# Altium footprint library ATLAS_XP2V5_sredjen_bom.PcbLib: 50 footprints (part 2 of 4)
Each footprint in its own frame and in the unit in brackets; x right, y up, seen from the top. Pads: shape width x height; smd on the part's side, far side on the other; paste and mask are expansions set on the pad; w line width, h text height; cw(c..) or ccw(c..) is an arc to the next point about the centre after c.
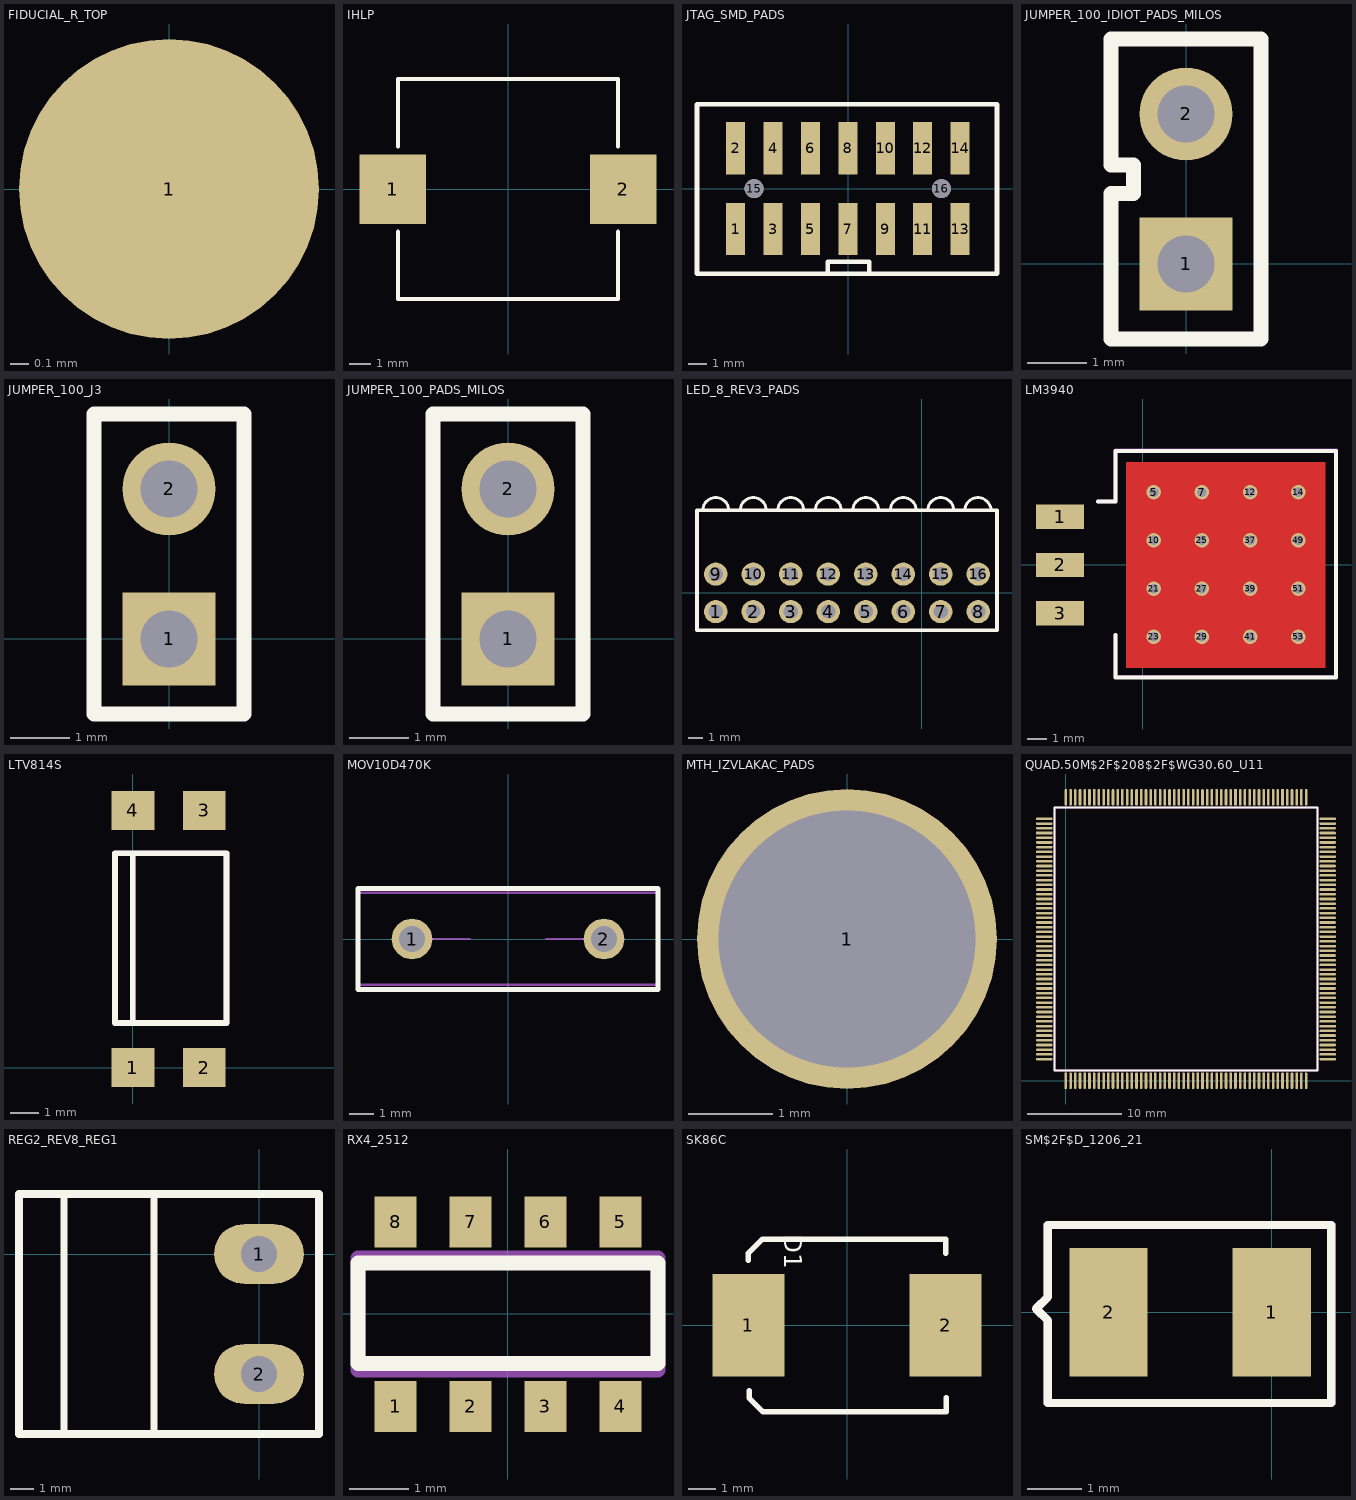
[diagram p1: the footprints below, top view; thin cyan lines are the x and y axes]

## FIDUCIAL_R_TOP [mil]
height 10
pads (1):
  round 63 smd paste-31.5 mask+31.5: 1(0,0)
Mechanical 1:
  text "UR9" at 0,356.09 h42.5

## IHLP [mil]
pads (2):
  rect 122.99x127.99 smd: 1(-212.5,0) 2(212.5,0)
Top Overlay:
  lines w7.87: -202.76,-78.74 -202.76,-202.76 202.76,-202.76 202.76,-78.74 ; -202.76,78.74 -202.76,203.15 202.76,203.15 202.76,78.74

## JTAG_SMD_PADS [mil]
pads (16):
  rect 40x110 smd: 1(-236.61,-85.04) 2(-236.61,84.96) 3(-157.91,-85.04) 4(-157.91,84.96) 5(-79.11,-85.04) 6(-79.11,84.96) 7(-0.4,-85.04) 8(-0.4,84.96) 9(78.39,-85.04) 10(78.39,84.96) 11(157.09,-85.04) 12(157.09,84.96) 13(235.82,-85.04) 14(235.82,84.96)
  round 40 hole 40 mask-20: 15(-197.61,-0.04) 16(196.39,-0.04)
Top Layer:
  text "J14" at 269,-253 h25.5
Top Overlay:
  lines w10: -317.86,-178.79 -317.86,177.46 313.39,177.46 313.39,-178.79 -317.86,-178.79 ; -42.86,-178.79 44.64,-178.79 44.64,-153.79 -42.86,-153.79 -42.86,-178.79
Mechanical 1:
  text "J14" at 263.84,-206.25 h25.5

## JUMPER_100_IDIOT_PADS_MILOS [mil]
pads (2):
  rect 62x62 / inner round 62 / far side rect 62x62 hole 38 mask+2.5: 1(0,0)
  round 62 / inner round 58 / far side round 62 hole 38 mask+2.5: 2(0,100)
Top Overlay:
  lines w10: -50,-50 -50,47 -35,47 -35,66 -50,66 -50,150 50,150 50,-50 -50,-50
Mechanical 1:
  text "JP5" at 42.53,-74.89 h25.5

## JUMPER_100_J3 [mil]
pads (2):
  rect 62x62 / inner rect 58x58 / far side rect 62x62 hole 38 mask+2.5: 1(0,0)
  round 62 / inner round 58 / far side round 62 hole 38 mask+2.5: 2(0,100)
Top Overlay:
  lines w10: -50,-50 -50,150 50,150 50,-50 -50,-50

## JUMPER_100_PADS_MILOS [mil]
pads (2):
  rect 62x62 / inner round 62 / far side rect 62x62 hole 38 mask+2.5: 1(0,0)
  round 62 / inner round 58 / far side round 62 hole 38 mask+2.5: 2(0,100)
Top Overlay:
  lines w10: -50,-50 -50,150 50,150 50,-50 -50,-50
Mechanical 1:
  text "JP4" at -62.5,107.25 h50

## LED_8_REV3_PADS [mil]
height 200
pads (16):
  round 62 hole 38: 1(-550,-50) 2(-450,-50) 3(-350,-50) 4(-250,-50) 5(-150,-50) 6(-50,-50) 7(50,-50) 8(150,-50) 9(-550,50) 10(-450,50) 11(-350,50) 12(-250,50) 13(-150,50) 14(-50,50) 15(50,50) 16(150,50)
Top Overlay:
  lines w8: -585,219 cw(c-550,219) -515,219 ; -485,219 cw(c-450,219) -415,219 ; -385,219 cw(c-350,219) -315,219 ; -285,219 cw(c-250,219) -215,219 ; -185,219 cw(c-150,219) -115,219 ; -85,219 cw(c-50,219) -15,219 ; 15,219 cw(c50,219) 85,219 ; 114,219 cw(c149,219) 184,219
  lines w10: -600,-100 -600,220 200,220 200,-100 -600,-100
Mechanical 1:
  text "U13" at -643.75,95.75 h25.5

## LM3940 [mil]
pads (19):
  rect 100x50 smd: 1(-171.26,100) 2(-171.26,0) 3(-171.26,-100)
  round 30 hole 20: 5(22.74,151) 7(122.74,151) 10(22.74,51) 12(222.74,151) 14(322.74,151) 21(22.74,-49) 23(22.74,-149) 25(122.74,51) 27(122.74,-49) 29(122.74,-149) 37(222.74,51) 39(222.74,-49) 41(222.74,-149) 49(322.74,51) 51(322.74,-49) 53(322.74,-149)
Top Layer:
  region: -34.26,-213 378.74,-213 378.74,213 -34.26,213
Top Overlay:
  lines w8: -93.14,131.25 -56.26,131.25 -56.26,236 400.74,236 400.74,-233 -56.26,-233 -56.26,-145
Top Paste:
  region: 283.74,-213 378.74,-213 378.74,-110 283.74,-110
  region: 283.74,-87 378.74,-87 378.74,-10 283.74,-10
  region: 283.74,13 378.74,13 378.74,90 283.74,90
  region: 183.74,-213 260.74,-213 260.74,-110 183.74,-110
  region: 183.74,-87 260.74,-87 260.74,-10 183.74,-10
  region: 183.74,13 260.74,13 260.74,90 183.74,90
  region: 83.74,-213 160.74,-213 160.74,-110 83.74,-110
  region: 83.74,-87 160.74,-87 160.74,-10 83.74,-10
  region: 83.74,13 160.74,13 160.74,90 83.74,90
  region: 283.74,113 378.74,113 378.74,213 283.74,213
  region: 183.74,113 260.74,113 260.74,213 183.74,213
  region: 83.74,113 160.74,113 160.74,213 83.74,213
  region: -34.26,-213 60.74,-213 60.74,-110 -34.26,-110
  region: -34.26,-87 60.74,-87 60.74,-10 -34.26,-10
  region: -34.26,13 60.74,13 60.74,90 -34.26,90
  region: -34.26,113 60.74,113 60.74,213 -34.26,213
Top Solder:
  region: -34.26,-212 378.74,-212 378.74,214 -34.26,214
Mechanical 1:
  lines w8: -93.14,131.25 -56.26,131.25 -56.26,237 400.74,237 400.74,-232 -56.26,-232 -56.26,-145
  text "U18" at 89.19,29.55 h25.5

## LTV814S [mil]
pads (4):
  rect 60x55 smd: 1(0,0) 2(100,0) 3(100,360) 4(0,360)
Top Overlay:
  lines w8: 0,62.5 0,300 ; -25,62.5 131.25,62.5 131.25,300 -25,300 -25,62.5
Mechanical 1:
  lines w8: 0,62.5 0,300 ; -25,62.5 131.25,62.5 131.25,300 -25,300 -25,62.5
  text "U2" at -68.69,219.63 h25.5

## MOV10D470K [mm]
height 15.5
pads (2):
  round 1.7 hole 1.1: 1(-4,0) 2(4,0)
Top Overlay:
  lines w0.2: -6.25,-2.1 -6.25,2.1 6.25,2.1 6.25,-2.1 -6.25,-2.1
Mechanical 1:
  circle w0.1: c4.01,0 r0.65
  circle w0.1: c-4.01,0 r0.65
  lines w0.1: -3.4,0 -1.6,0 ; 1.6,0 3.4,0 ; -6.248,-1.905 -6.248,1.93 6.223,1.93 6.223,-1.905 -6.248,-1.905
  text "U45" at -0.877,-0.39 h0.65
  text "U45" at 6.819,0.886 h0.65
Mechanical 2:
  circle w0.1: c4.01,0 r0.65
  circle w0.1: c-3.984,0 r0.65

## MTH_IZVLAKAC_PADS [mil]
pads (1):
  round 140 hole 120: 1(0,0)
Top Layer:
  text "U5" at 224.45,-37.5 h45
Mechanical 1:
  text "U5" at -265.55,-98.81 h45

## QUAD.50M$2F$208$2F$WG30.60_U11 [mil]
pads (208):
  rect 11x70 smd paste-3.5: 1(0,0) 10(177.3,0) 20(374.3,0) 30(571.3,0) 40(768.3,0) 50(965.3,0) 110(906.2,1184.7) 120(709.2,1184.7) 130(512.2,1184.7) 140(315.2,1184.7) 150(118.2,1184.7)
  oval 11x70 smd paste-3.5: 2(19.7,0) 3(39.4,0) 4(59.1,0) 5(78.8,0) 6(98.5,0) 7(118.2,0) 8(137.9,0) 9(157.6,0) 11(197,0) 12(216.7,0) 13(236.4,0) 14(256.1,0) 15(275.8,0) 16(295.5,0) 17(315.2,0) 18(334.9,0) 19(354.6,0) 21(394,0) 22(413.7,0) 23(433.4,0) 24(453.1,0) 25(472.8,0) 26(492.5,0) 27(512.2,0) 28(531.9,0) 29(551.6,0) 31(591,0) 32(610.7,0) 33(630.4,0) 34(650.1,0) 35(669.8,0) 36(689.5,0) 37(709.2,0) 38(728.9,0) 39(748.6,0) 41(788,0) 42(807.7,0) 43(827.4,0) 44(847.1,0) 45(866.8,0) 46(886.5,0) 47(906.2,0) 48(925.9,0) 49(945.6,0) 51(985,0) 52(1004.7,0) 105(1004.7,1184.7) 106(985,1184.7) 107(965.3,1184.7) 108(945.6,1184.7) 109(925.9,1184.7) 111(886.5,1184.7) 112(866.8,1184.7) 113(847.1,1184.7) 114(827.4,1184.7) 115(807.7,1184.7) 116(788,1184.7) 117(768.3,1184.7) 118(748.6,1184.7) 119(728.9,1184.7) 121(689.5,1184.7) 122(669.8,1184.7) 123(650.1,1184.7) 124(630.4,1184.7) 125(610.7,1184.7) 126(591,1184.7) 127(571.3,1184.7) 128(551.6,1184.7) 129(531.9,1184.7) 131(492.5,1184.7) 132(472.8,1184.7) 133(453.1,1184.7) 134(433.4,1184.7) 135(413.7,1184.7) 136(394,1184.7) 137(374.3,1184.7) 138(354.6,1184.7) 139(334.9,1184.7) 141(295.5,1184.7) 142(275.8,1184.7) 143(256.1,1184.7) 144(236.4,1184.7) 145(216.7,1184.7) 146(197,1184.7) 147(177.3,1184.7) 148(157.6,1184.7) 149(137.9,1184.7) 151(98.5,1184.7) 152(78.8,1184.7) 153(59.1,1184.7) 154(39.4,1184.7) 155(19.7,1184.7) 156(0,1184.7)
  oval 70x11 smd paste-3.5: 53(1094.7,90) 54(1094.7,109.7) 55(1094.7,129.4) 56(1094.7,149.1) 57(1094.7,168.8) 58(1094.7,188.5) 59(1094.7,208.2) 61(1094.7,247.6) 62(1094.7,267.3) 63(1094.7,287) 64(1094.7,306.7) 65(1094.7,326.4) 66(1094.7,346.1) 67(1094.7,365.8) 68(1094.7,385.5) 69(1094.7,405.2) 71(1094.7,444.6) 72(1094.7,464.3) 73(1094.7,484) 74(1094.7,503.7) 75(1094.7,523.4) 76(1094.7,543.1) 77(1094.7,562.8) 78(1094.7,582.5) 79(1094.7,602.2) 81(1094.7,641.6) 82(1094.7,661.3) 83(1094.7,681) 84(1094.7,700.7) 85(1094.7,720.4) 86(1094.7,740.1) 87(1094.7,759.8) 88(1094.7,779.5) 89(1094.7,799.2) 91(1094.7,838.6) 92(1094.7,858.3) 93(1094.7,878) 94(1094.7,897.7) 95(1094.7,917.4) 96(1094.7,937.1) 97(1094.7,956.8) 98(1094.7,976.5) 99(1094.7,996.2) 101(1094.7,1035.6) 102(1094.7,1055.3) 103(1094.7,1075) 104(1094.7,1094.7) 157(-90,1094.7) 158(-90,1075) 159(-90,1055.3) 161(-90,1015.9) 162(-90,996.2) 163(-90,976.5) 164(-90,956.8) 165(-90,937.1) 166(-90,917.4) 167(-90,897.7) 168(-90,878) 169(-90,858.3) 171(-90,818.9) 172(-90,799.2) 173(-90,779.5) 174(-90,759.8) 175(-90,740.1) 176(-90,720.4) 177(-90,700.7) 178(-90,681) 179(-90,661.3) 181(-90,621.9) 182(-90,602.2) 183(-90,582.5) 184(-90,562.8) 185(-90,543.1) 186(-90,523.4) 187(-90,503.7) 188(-90,484) 189(-90,464.3) 191(-90,424.9) 192(-90,405.2) 193(-90,385.5) 194(-90,365.8) 195(-90,346.1) 196(-90,326.4) 197(-90,306.7) 198(-90,287) 199(-90,267.3) 201(-90,227.9) 202(-90,208.2) 203(-90,188.5) 204(-90,168.8) 205(-90,149.1) 206(-90,129.4) 207(-90,109.7) 208(-90,90)
  rect 70x11 smd paste-3.5: 60(1094.7,227.9) 70(1094.7,424.9) 80(1094.7,621.9) 90(1094.7,818.9) 100(1094.7,1015.9) 160(-90,1035.6) 170(-90,838.6) 180(-90,641.6) 190(-90,444.6) 200(-90,247.6)
Top Overlay:
  lines w10: -47.7,42.3 -47.7,1142.3 1052.3,1142.3 1052.3,42.3 -47.7,42.3
Mechanical 1:
  lines w10: -47.7,42.3 -47.7,1142.3 1052.3,1142.3 1052.3,42.3 -47.7,42.3
  text "U11" at 62.75,-129.22 h25.5

## REG2_REV8_REG1 [mil]
pads (2):
  oval 150x100 hole 60 mask+2.5: 1(0,0) 2(0,-200)
Top Overlay:
  lines w12: -325,-300 -325,100 ; -175,-300 -175,100
  lines w14: -400,-300 -400,100 100,100 100,-300 -400,-300

## RX4_2512 [mil]
pads (8):
  rect 28x34 smd: 1(-74.8,-61.6) 2(-24.8,-61.6) 3(25.2,-61.6) 4(75.2,-61.6) 5(75.2,61.4) 6(25.2,61.4) 7(-24.8,61.4) 8(-74.8,61.4)
Top Layer:
  text "RN9" at 181.65,14.58 h25.5
Top Overlay:
  lines w10: -99.8,-33.07 -99.8,33.86 100.2,33.86 100.2,-33.07 -99.8,-33.07
Mechanical 1:
  lines w10: -99.8,-37.6 -99.8,37.4 100.2,37.4 100.2,-37.6 -99.8,-37.6
  text "RN9" at 0,356.09 h42.5
  text "RN9" at 187.9,20.83 h25.5

## SK86C [mil]
pads (2):
  rect 102x146 smd: 1(-140,0) 2(140,0)
Top Overlay:
  lines w7.87: -140,92.52 -140,102.5 -120,122.5 140,122.5 140,102.36 ; -138.98,-92.91 -138.98,-102.89 -118.98,-122.89 141.02,-122.89 141.02,-102.75
  text "D1" at -89.39,129.55 h25.5
Mechanical 1:
  text "D1" at -64.39,-20.45 h25.5

## SM$2F$D_1206_21 [mil]
pads (2):
  rect 56x92 smd: 1(0,0) 2(-117,0)
Top Overlay:
  lines w6: -169,2.5 -160.5,11 -160.5,62.5 42.5,62.5 42.5,-65 -160.5,-65 -160.5,-6 -169,2.5
Mechanical 1:
  lines w6: -169,2.5 -160.5,11 -160.5,62.5 42.5,62.5 42.5,-65 -160.5,-65 -160.5,-6 -169,2.5
  text "ZD3" at -2.11,75.62 h25.5